# Altium footprint library footprints.PcbLib: 154 footprints (part 10 of 10)
Each footprint in its own frame and in the unit in brackets; x right, y up, seen from the top. Pads: shape width x height; smd on the part's side, far side on the other; paste and mask are expansions set on the pad; w line width, h text height; cw(c..) or ccw(c..) is an arc to the next point about the centre after c.
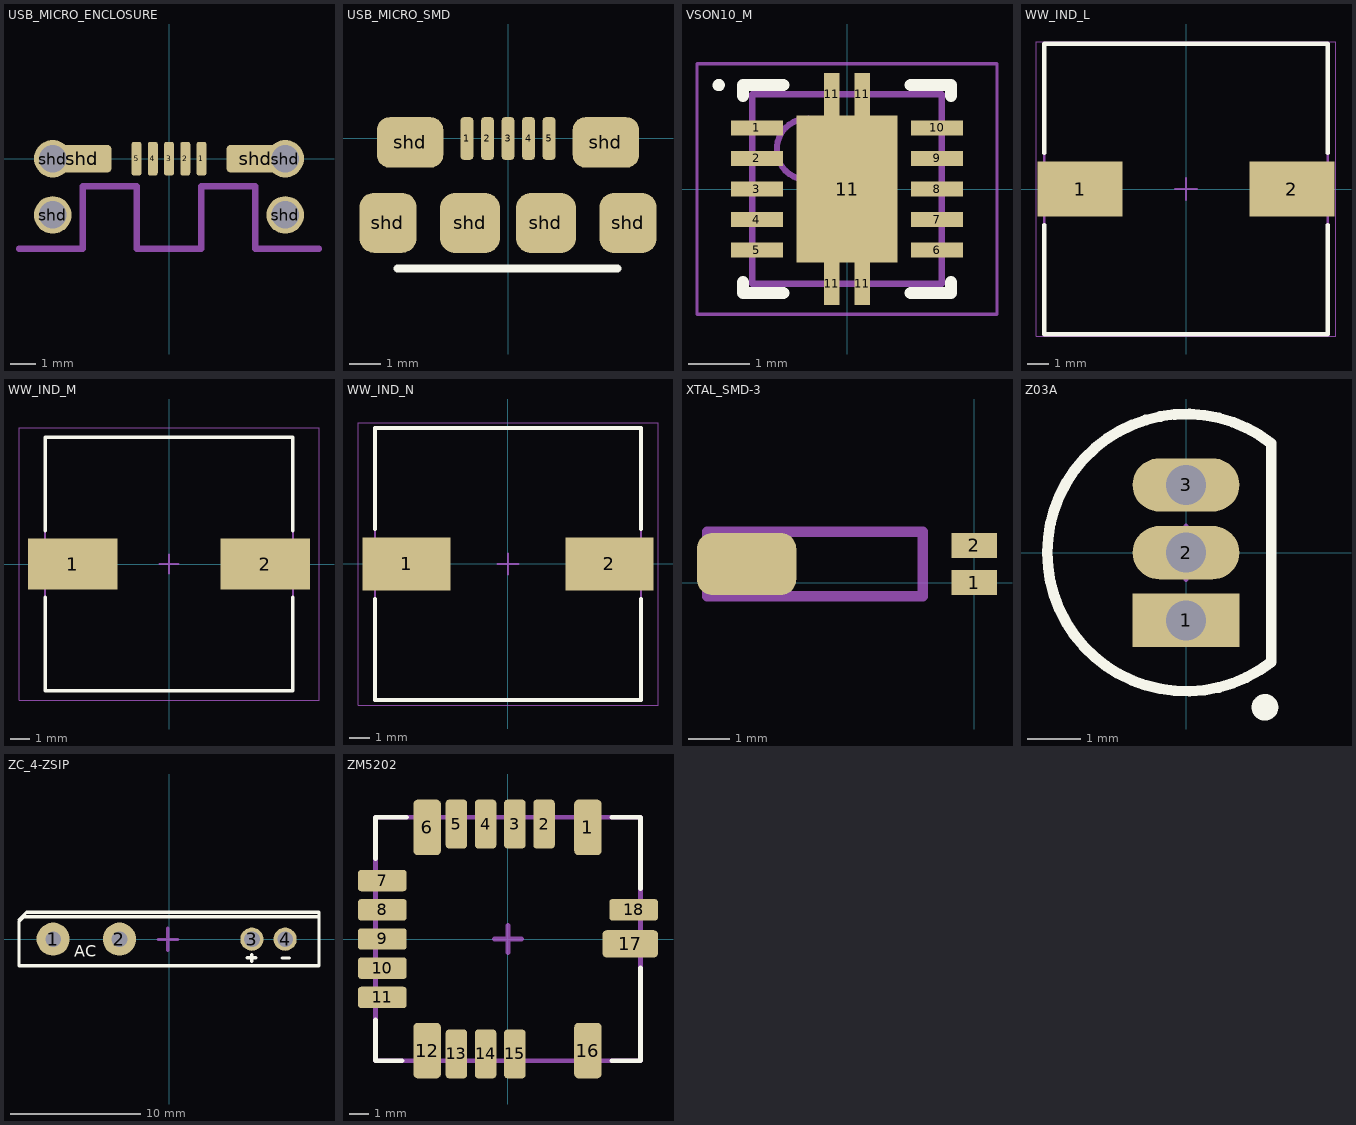
[diagram p9: the footprints below, top view; thin cyan lines are the x and y axes]

## USB_MICRO_ENCLOSURE [mm]
pads (11):
  rrect50% 0.4x1.35 smd: 1(1.3,0) 2(0.65,0) 3(0,0) 4(-0.65,0) 5(-1.3,0)
  round 1.5 hole 1.1: shd(-4.65,-2.25) shd(-4.65,0) shd(4.65,-2.25) shd(4.65,0)
  rrect30% 2.35x1.1 smd: shd(-3.475,0) shd(3.475,0)
Mechanical 13:
  lines w0.254: -6,-3.6 -3.455,-3.6 -3.455,-1.1 -1.295,-1.1 -1.295,-3.6 1.295,-3.6 1.295,-1.1 3.455,-1.1 3.455,-3.6 6,-3.6
3D body: height 2.88, standoff 0, extent -4.1,-4.362 4.1,0.563

## USB_MICRO_SMD [mm]
pads (11):
  rrect50% 0.4x1.35 smd: 1(-1.3,0) 2(-0.65,0) 3(0,0) 4(0.65,0) 5(1.3,0)
  rrect50% 1.8x1.9 smd: shd(-3.8,-2.67) shd(3.8,-2.675)
  rrect50% 2.1x1.6 smd: shd(-3.1,-0.125) shd(3.1,-0.125)
  rrect50% 1.9x1.9 smd: shd(-1.2,-2.675) shd(1.2,-2.675)
Top Overlay:
  lines w0.254: -3.5,-4.125 3.475,-4.125
3D body: height 2.68, standoff -0.24, extent -3.962,-5.101 4.012,0.325

## VSON10_M [mm] "SON, 10-Leads, Body 3.00x3.00mm, Pitch 0.50mm, Thermal Pad 2.40x1.49mm, IPC Low Density"
height 1
pads (15):
  rect 0.85x0.25 smd mask+0: 1(-1.475,1) 2(-1.475,0.5) 3(-1.475,0) 4(-1.475,-0.5) 5(-1.475,-1) 6(1.475,-1) 7(1.475,-0.5) 8(1.475,0) 9(1.475,0.5) 10(1.475,1)
  rect 0.25x0.7 smd mask+0: 11(-0.25,-1.55) 11(-0.25,1.55) 11(0.25,-1.55) 11(0.25,1.55)
  rect 1.65x2.4 smd: 11(0,0)
Top Overlay:
  circle w0.1: c-2.1,1.7 r0.05
  lines w0.2: -1.7,-1.525 -1.7,-1.7 -1.045,-1.7 ; -1.7,1.525 -1.7,1.7 -1.045,1.7 ; 1.045,-1.7 1.7,-1.7 1.7,-1.525 ; 1.045,1.7 1.7,1.7 1.7,1.525
Mechanical 13:
  circle w0.1: c-0.65,0.65 r0.5
  lines w0.1: -1.55,-1.55 1.55,-1.55 1.55,1.55 -1.55,1.55 -1.55,-1.55
Mechanical 15:
  lines w0.05: -2.455,-2.05 2.455,-2.05 2.455,2.05 -2.455,2.05 -2.455,-2.05
  lines w0.1: -0.5,0 0.5,0 ; 0,-0.5 0,0.5
3D body: height 1, standoff 0, extent -1.55,-1.55 1.55,1.55

## WW_IND_L [mm] "Precision Wire Wound Inductor, 2-Leads, Body 12,50x12,80mm, IPC High Density"
height 6.5
pads (2):
  rect 3.9x2.5 smd: 1(-4.85,0) 2(4.85,0)
Top Overlay:
  lines w0.2: -6.5,-1.65 -6.5,-6.65 6.5,-6.65 6.5,-1.65 ; -6.5,1.65 -6.5,6.65 6.5,6.65 6.5,1.65
Mechanical 13:
  lines w0.1: -6.5,-6.65 -6.5,6.65 6.5,6.65 6.5,-6.65 -6.5,-6.65
Mechanical 15:
  lines w0.05: -6.875,-6.75 -6.875,6.75 6.875,6.75 6.875,-6.75 -6.875,-6.75
  lines w0.1: -0.5,0 0.5,0 ; 0,-0.5 0,0.5
3D body: height 6.5, standoff 0, extent -6.5,-6.65 6.5,6.65

## WW_IND_M [mm] "Precision Wire Wound Inductor, 2-Leads, Body 12,50x12,80mm, IPC Low Density"
height 6.5
pads (2):
  rect 4.7x2.7 smd: 1(-5.05,0) 2(5.05,0)
Top Overlay:
  lines w0.2: -6.5,-1.75 -6.5,-6.65 6.5,-6.65 6.5,-1.75 ; -6.5,1.75 -6.5,6.65 6.5,6.65 6.5,1.75
Mechanical 13:
  lines w0.1: -6.5,-6.65 -6.5,6.65 6.5,6.65 6.5,-6.65 -6.5,-6.65
Mechanical 15:
  lines w0.05: -7.875,-7.15 -7.875,7.15 7.875,7.15 7.875,-7.15 -7.875,-7.15
  lines w0.1: -0.5,0 0.5,0 ; 0,-0.5 0,0.5
3D body: height 6.5, standoff 0, extent -6.5,-6.65 6.5,6.65

## WW_IND_N [mm] "Precision Wire Wound Inductor, 2-Leads, Body 12,50x12,80mm, IPC Medium Density"
height 6.5
pads (2):
  rect 4.3x2.6 smd: 1(-4.95,0) 2(4.95,0)
Top Overlay:
  lines w0.2: -6.5,-1.7 -6.5,-6.65 6.5,-6.65 6.5,-1.7 ; -6.5,1.7 -6.5,6.65 6.5,6.65 6.5,1.7
Mechanical 13:
  lines w0.1: -6.5,-6.65 -6.5,6.65 6.5,6.65 6.5,-6.65 -6.5,-6.65
Mechanical 15:
  lines w0.05: -7.325,-6.9 -7.325,6.9 7.325,6.9 7.325,-6.9 -7.325,-6.9
  lines w0.1: -0.5,0 0.5,0 ; 0,-0.5 0,0.5
3D body: height 6.5, standoff 0, extent -6.5,-6.65 6.5,6.65

## XTAL_SMD-3 [mm] "Xtal smd for cilindrical crystal"
height 1.45
pads (3):
  rect 1.1x0.6 smd: 1(0,0) 2(0,0.9)
  rrect50% 2.4x1.5 smd: ""(-5.5,0.45)
Mechanical 13:
  lines w0.254: -6.45,1.175 -6.45,-0.325 -1.25,-0.325 -1.25,1.225 -6.45,1.225
3D body: height 0.72, standoff -0.72, extent -6.475,-0.3 -1.275,1.134

## Z03A [mm] "TO, Flat Index; 3 In-Line, Axial Leads; Body Dia. 5mm; Leads 0.55 x 0.50 mm (max)"
height 5.2
pads (3):
  rect 2x1 hole 0.75: 1(0,-1.27)
  oval 2x1 hole 0.75: 2(0,0) 3(0,1.27)
Top Overlay:
  circle w0.25: c1.48,-2.9 r0.125
  lines w0.2: 1.601,-2.049 cw(c0,0) 1.601,2.049 1.6,-2.049
Mechanical 13:
  lines w0.1: 1.601,-2.049 cw(c0,0) 1.601,2.049 1.6,-2.049
Mechanical 15:
  lines w0.1: -0.5,0 0.5,0 ; 0,-0.5 0,0.5
3D body: height 5.2, standoff 0, extent -2.612,-2.612 1.6,2.612

## ZC_4-ZSIP [mm]
pads (4):
  round 2.54 hole 1.2: 1(-8.88,0) 2(-3.8,0)
  round 1.778 hole 1.2: 3(6.36,0) 4(8.9,0)
Top Overlay:
  lines w0.254: -11.5,1.5 -10.925,2.075 11.475,2.075 11.5,2.05 11.5,-2.05 -11.475,-2.05 -11.5,-2.025 -11.5,1.35 -11.125,1.725 11.425,1.725 ; 6,-1.425 6.65,-1.425 ; 6.35,-1.7 6.35,-1.175 ; 8.675,-1.45 9.225,-1.45
  text "AC" at -7.25,-1.65 h1.52
Mechanical 15:
  lines w0.254: -0.85,-0.025 0.675,-0.025 ; -0.1,-0.875 -0.1,0.85
3D body: height 17, standoff 1, extent -11.5,-2 11.5,2

## ZM5202 [mm]
pads (18):
  rrect30% 1.4x2.85 smd: 1(4.1,5.725) 6(-4.15,5.725) 12(-4.15,-5.725) 16(4.1,-5.725)
  rrect30% 1.1x2.5 smd: 2(1.85,5.9) 3(0.35,5.9) 4(-1.15,5.9) 5(-2.65,5.9) 13(-2.65,-5.9) 14(-1.15,-5.9) 15(0.35,-5.9)
  rrect30% 2.5x1.1 smd: 7(-6.45,3) 8(-6.45,1.5) 9(-6.45,0) 10(-6.45,-1.5) 11(-6.45,-3) 18(6.45,1.5)
  rrect30% 2.85x1.4 smd: 17(6.275,-0.25)
Top Overlay:
  lines w0.254: -6.8,-4.15 -6.8,-6.25 -5.45,-6.25 ; -6.8,4.125 -6.8,6.25 -5.2,6.25 ; 5.325,-6.25 6.8,-6.25 6.8,-1.5 ; 5.325,6.25 6.8,6.25 6.8,2.6
Mechanical 13:
  lines w0.254: -6.8,-6.25 -6.8,6.25 6.8,6.25 6.8,-6.25 -6.8,-6.25
Mechanical 15:
  lines w0.254: -0.7,0 0.7,0 ; 0,-0.7 0,0.7
3D body: height 1.6, standoff 0, extent -6.8,-6.25 6.8,6.25
3D body: height 1.9, standoff 1.6, extent -4.475,-1.85 2,4.1
3D body: height 1.9, standoff 1.6, extent 1.95,-5.425 5.875,-2.625